# Altium integrated library Dallas Peripheral Bankswitch.IntLib: 2 symbols
Pins are listed as number, name and electrical type; pins without a type are passive.

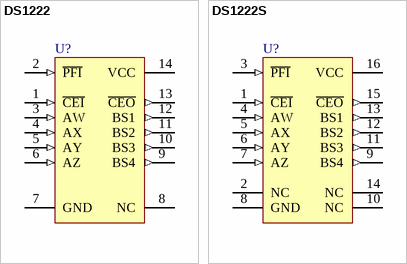
[diagram p0: symbols DS1222 to DS1222S]

## DS1222
designator U?
Bank Switch Chip; Note: Pin number 8 is Not Connected (NC); Published: 13-Oct-2000; LatestRevisionDate: 17-Jul-2002; LatestRevisionNote: Re-released for DXP Platform.; DatasheetVersion: 26-Feb-1998; PackageVersion: 1999; PackageReference: DIP14; Publisher: Altium Limited; PackageDescription: DIP, 14-Pin, Row Spacing 7.62 mm, Pitch 2.54 mm; ComponentLink1Description: Manufacturer Link; ComponentLink1URL: http://www.maxim-ic.com/
footprint DIP14 (DIP, 14-Leads, Row Spacing 7.62mm, Pitch 2.54mm, Body 19.31x6.35mm)
pins: 1 ~{CEI} (in), 2 ~{PFI} (in), 3 AW (in), 4 AX (in), 5 AY (in), 6 AZ (in), 7 GND (power), 8 NC, 9 BS4 (out), 10 BS3 (out), 11 BS2 (out), 12 BS1 (out), 13 ~{CEO} (out), 14 VCC (power)

## DS1222S
designator U?
Bank Switch Chip; Note: Pin numbers 2, 10 and 14 are Not Connected (NC); Published: 13-Oct-2000; LatestRevisionDate: 13-Apr-2006; LatestRevisionNote: IPC-7351 Footprint Added.; DatasheetVersion: 26-Feb-1998; PackageVersion: 1999; PackageReference: SOIC16W; Publisher: Altium Limited; PackageDescription: 16-Pin Small Outline Integrated Circuit 1.27 mm Pitch; ComponentLink1Description: Manufacturer Link; ComponentLink1URL: http://www.maxim-ic.com/
footprint SOIC16W_N (SOIC, 16-Leads, Body 10.3x7.5mm, Pitch 1.27mm, IPC Medium Density)
footprint SOIC16W_L (SOIC, 16-Leads, Body 10.3x7.5mm, Pitch 1.27mm, IPC High Density)
footprint SOIC16W_M (SOIC, 16-Leads, Body 10.3x7.5mm, Pitch 1.27mm, IPC Low Density)
pins: 1 ~{CEI} (in), 2 NC, 3 ~{PFI} (in), 4 AW (in), 5 AX (in), 6 AY (in), 7 AZ (in), 8 GND (power), 9 BS4 (out), 10 NC, 11 BS3 (out), 12 BS2 (out), 13 BS1 (out), 14 NC, 15 ~{CEO} (out), 16 VCC (power)